# Altium footprint library CAP0805.PcbLib: 1 footprints
Each footprint in its own frame and in the unit in brackets; x right, y up, seen from the top. Pads: shape width x height; smd on the part's side, far side on the other; paste and mask are expansions set on the pad; w line width, h text height; cw(c..) or ccw(c..) is an arc to the next point about the centre after c.
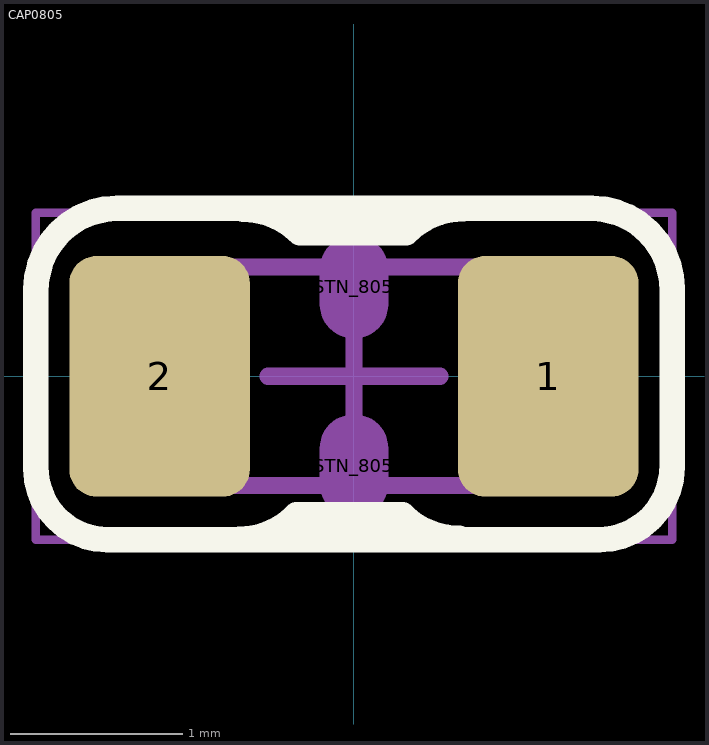
[diagram p0: the footprint, top view; thin cyan lines are the x and y axes]

## CAP0805 [mm] "Chip Capacitor, 2-Leads, Body 2/00x1/25mm, IPC Medium Density DESIGNER:ABBAS BASEREH"
height 0.5
pads (4):
  rrect30% 1.05x1.4 smd: 1(1.13,0) 2(-1.13,0)
  oval 0.4x0.6 on Mech2 mask+0: STN_805(0,-0.52) STN_805(0,0.52)
Top Overlay:
  lines w0.15: -0.666,-0.948 ccw(c-0.666,-0.482) -0.337,-0.811 ; -0.643,0.971 cw(c-0.643,0.506) -0.313,0.835 0.302,0.835 ; -0.334,-0.807 0.281,-0.807 ccw(c0.611,-0.478) 0.611,-0.944 ; 0.305,0.839 cw(c0.634,0.51) 0.634,0.976 ; 1.25,0.977 -1.25,0.977 -1.376,0.977 ccw(c-1.376,0.503) -1.85,0.503 -1.85,-0.534 ccw(c-1.434,-0.534) -1.434,-0.95 1.25,-0.95 1.425,-0.95 ccw(c1.425,-0.525) 1.85,-0.525 1.85,0.508 ccw(c1.381,0.508) 1.381,0.977 1.27,0.977
Mechanical 13:
  lines w0.1: -1,-0.635 -1,0.635 1,0.635 1,-0.635 -1,-0.635
Mechanical 15:
  lines w0.05: -1.85,-0.95 -1.85,0.95 1.85,0.95 1.85,-0.95 -1.85,-0.95
  lines w0.1: -0.5,0 0.5,0 ; 0,-0.5 0,0.5
3D body "Ceramic_Capacitor_0805_h32mil.step": height 0.81, standoff 0.01, extent -1,-0.625 1,0.625